# Altium footprint library IND_1235AS-H-220M=P3.PcbLib: 1 footprints
Each footprint in its own frame and in the unit in brackets; x right, y up, seen from the top. Pads: shape width x height; smd on the part's side, far side on the other; paste and mask are expansions set on the pad; w line width, h text height; cw(c..) or ccw(c..) is an arc to the next point about the centre after c.
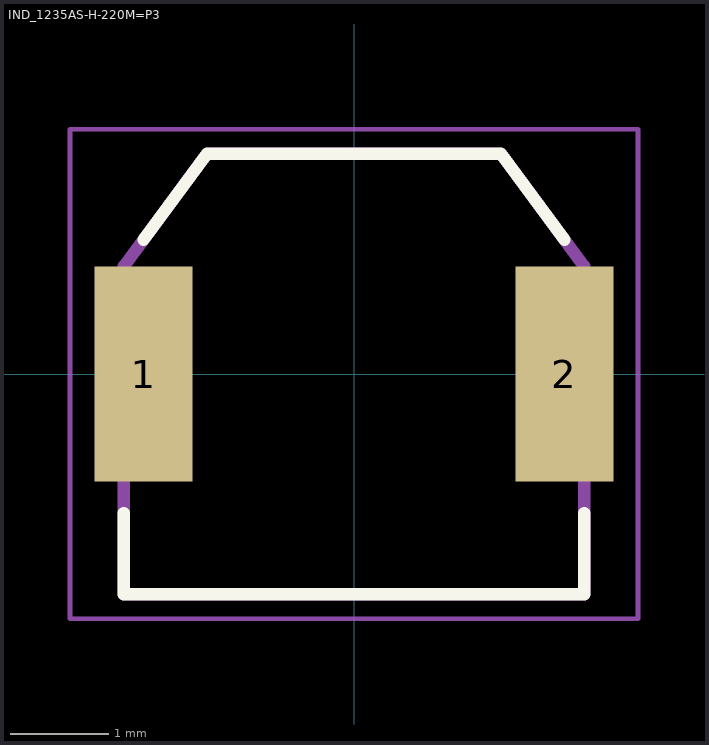
[diagram p0: the footprint, top view; thin cyan lines are the x and y axes]

## IND_1235AS-H-220M=P3 [mm]
pads (2):
  rect 1x2.2 smd: 1(-2.15,0) 2(2.15,0)
Top Overlay:
  lines w0.127: -2.35,-1.42 -2.35,-2.25 2.35,-2.25 2.35,-1.42 ; -2.15,1.37 -1.5,2.25 1.5,2.25 2.15,1.37
Mechanical 13:
  lines w0.127: -2.35,-2.25 2.35,-2.25 2.35,1.1 1.5,2.25 -1.5,2.25 -2.35,1.1 -2.35,-2.25
Mechanical 15:
  lines w0.05: -2.9,-2.5 2.9,-2.5 2.9,2.5 -2.9,2.5 -2.9,-2.5